# Altium schematic symbol library header_260_tp1_sct.SchLib: 1 symbol
Pins are listed as number, name and electrical type; pins without a type are passive.

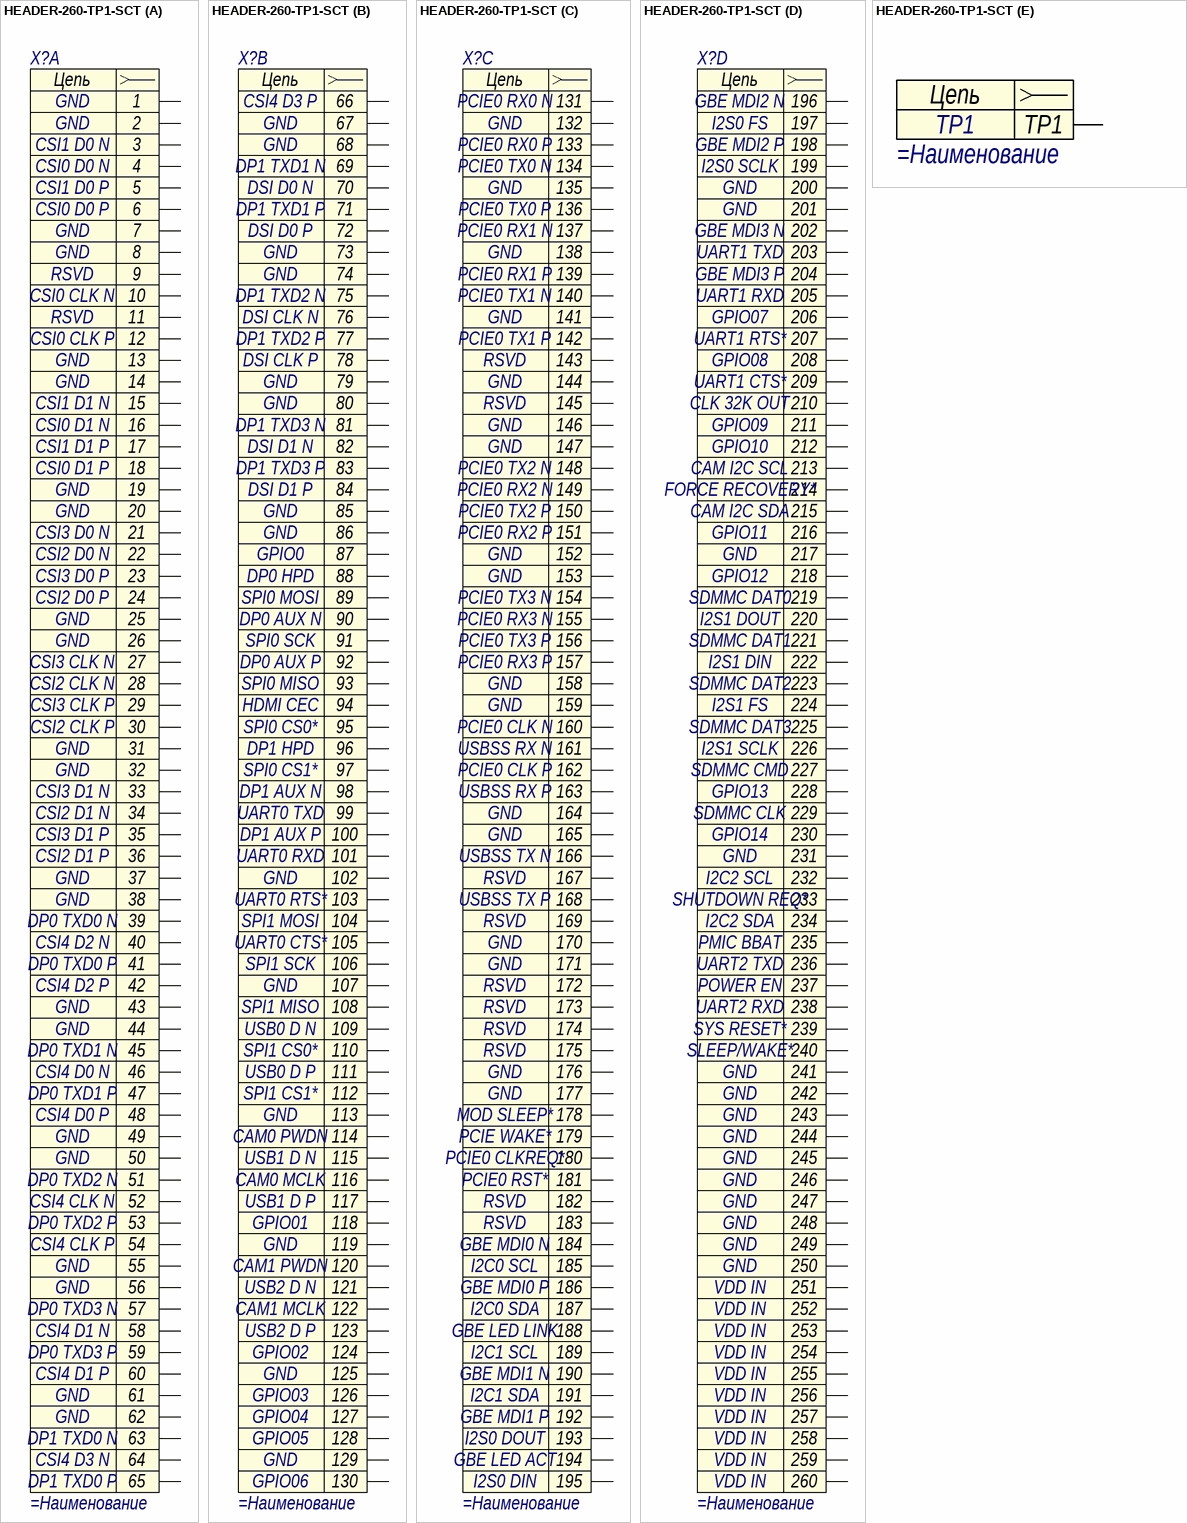
[diagram p0: symbol HEADER-260-TP1-SCT]

## HEADER-260-TP1-SCT
designator X?
=Описание; Contact_001: GND; Contact_003: CSI1 D0 N; Contact_004: CSI0 D0 N; Contact_005: CSI1 D0 P; Contact_006: CSI0 D0 P; Contact_010: CSI0 CLK N; Contact_011: RSVD; Contact_012: CSI0 CLK P; Contact_015: CSI1 D1 N; Contact_016: CSI0 D1 N; Contact_017: CSI1 D1 P; Contact_030: CSI2 CLK P; Contact_036: CSI2 D1 P; Contact_039: DP0 TXD0 N; Contact_040: CSI4 D2 N; Contact_018: CSI0 D1 P; Contact_021: CSI3 D0 N; Contact_022: CSI2 D0 N; Contact_023: CSI3 D0 P; Contact_024: CSI2 D0 P; Contact_027: CSI3 CLK N; Contact_028: CSI2 CLK N; Contact_029: CSI3 CLK P; Contact_033: CSI3 D1 N; Contact_034: CSI2 D1 N; Contact_035: CSI3 D1 P; Contact_041: DP0 TXD0 P; Contact_052: CSI4 CLK N; Contact_063: DP1 TXD0 N; Contact_069: DP1 TXD1 N; Contact_070: DSI D0 N; Contact_071: DP1 TXD1 P; Contact_072: DSI D0 P; Contact_042: CSI4 D2 P; Contact_045: DP0 TXD1 N; Contact_046: CSI4 D0 N; Contact_047: DP0 TXD1 P; Contact_048: CSI4 D0 P; Contact_051: DP0 TXD2 N; Contact_053: DP0 TXD2 P; Contact_054: CSI4 CLK P; Contact_057: DP0 TXD3 N; Contact_058: CSI4 D1 N; Contact_059: DP0 TXD3 P; Contact_060: CSI4 D1 P; Contact_064: CSI4 D3 N; Contact_065: DP1 TXD0 P; Contact_066: CSI4 D3 P; Contact_075: DP1 TXD2 N; Contact_076: DSI CLK N; Contact_077: DP1 TXD2 P; Contact_078: DSI CLK P; Contact_081: DP1 TXD3 N; Contact_082: DSI D1 N; Contact_083: DP1 TXD3 P; Contact_084: DSI D1 P; Contact_087: GPIO0; Contact_088: DP0 HPD; Contact_089: SPI0 MOSI; Contact_090: DP0 AUX N; Contact_091: SPI0 SCK; Contact_092: DP0 AUX P; Contact_093: SPI0 MISO; Contact_094: HDMI CEC; Contact_095: SPI0 CS0*; Contact_096: DP1 HPD; Contact_097: SPI0 CS1*; Contact_098: DP1 AUX N; Contact_099: UART0 TXD; Contact_100: DP1 AUX P; Contact_101: UART0 RXD; Contact_103: UART0 RTS*; Contact_104: SPI1 MOSI; Contact_105: UART0 CTS*; Contact_106: SPI1 SCK; Contact_108: SPI1 MISO; Contact_109: USB0 D N; Contact_110: SPI1 CS0*; Contact_111: USB0 D P; Contact_112: SPI1 CS1*; Contact_114: CAM0 PWDN; Contact_115: USB1 D N; Contact_116: CAM0 MCLK; Contact_117: USB1 D P; Contact_118: GPIO01; Contact_120: CAM1 PWDN; Contact_121: USB2 D N; Contact_122: CAM1 MCLK; Contact_123: USB2 D P; Contact_124: GPIO02; Contact_126: GPIO03; Contact_127: GPIO04; Contact_128: GPIO05; Contact_130: GPIO06; Contact_131: PCIE0 RX0 N; Contact_133: PCIE0 RX0 P; Contact_134: PCIE0 TX0 N; Contact_136: PCIE0 TX0 P; Contact_137: PCIE0 RX1 N; Contact_139: PCIE0 RX1 P; Contact_140: PCIE0 TX1 N; Contact_142: PCIE0 TX1 P; Contact_148: PCIE0 TX2 N; Contact_149: PCIE0 RX2 N; Contact_150: PCIE0 TX2 P; Contact_151: PCIE0 RX2 P; Contact_154: PCIE0 TX3 N; Contact_155: PCIE0 RX3 N; Contact_156: PCIE0 TX3 P; Contact_157: PCIE0 RX3 P; Contact_160: PCIE0 CLK N; Contact_161: USBSS RX N; Contact_162: PCIE0 CLK P; Contact_163: USBSS RX P; Contact_166: USBSS TX N; Contact_168: USBSS TX P; Contact_178: MOD SLEEP*; Contact_179: PCIE WAKE*; Contact_180: PCIE0 CLKREQ*; Contact_181: PCIE0 RST*; Contact_184: GBE MDI0 N; Contact_185: I2C0 SCL; Contact_186: GBE MDI0 P; Contact_187: I2C0 SDA; Contact_188: GBE LED LINK; Contact_189: I2C1 SCL; Contact_190: GBE MDI1 N; Contact_191: I2C1 SDA; Contact_192: GBE MDI1 P; Contact_193: I2S0 DOUT; Contact_194: GBE LED ACT; Contact_195: I2S0 DIN; Contact_196: GBE MDI2 N; Contact_197: I2S0 FS; Contact_198: GBE MDI2 P; Contact_199: I2S0 SCLK; Contact_202: GBE MDI3 N; Contact_203: UART1 TXD; Contact_204: GBE MDI3 P; Contact_205: UART1 RXD; Contact_206: GPIO07; Contact_207: UART1 RTS*; Contact_208: GPIO08; Contact_209: UART1 CTS*; Contact_210: CLK 32K OUT; Contact_211: GPIO09; Contact_212: GPIO10; Contact_213: CAM I2C SCL; Contact_214: FORCE RECOVERY*; Contact_215: CAM I2C SDA; Contact_216: GPIO11; Contact_218: GPIO12; Contact_219: SDMMC DAT0; Contact_220: I2S1 DOUT; Contact_221: SDMMC DAT1; Contact_222: I2S1 DIN; Contact_223: SDMMC DAT2; Contact_224: I2S1 FS; Contact_225: SDMMC DAT3; Contact_226: I2S1 SCLK; Contact_227: SDMMC CMD; Contact_228: GPIO13; Contact_229: SDMMC CLK; Contact_230: GPIO14; Contact_232: I2C2 SCL; Contact_233: SHUTDOWN REQ*; Contact_234: I2C2 SDA; Contact_235: PMIC BBAT; Contact_236: UART2 TXD; Contact_237: POWER EN; Contact_238: UART2 RXD; Contact_239: SYS RESET*; Contact_240: SLEEP/WAKE*; Contact_251: VDD IN; Contact_002: GND; Contact_007: GND; Contact_008: GND; Contact_013: GND; Contact_014: GND; Contact_009: RSVD; Contact_019: GND; Contact_037: GND; Contact_038: GND; Contact_020: GND; Contact_025: GND; Contact_026: GND; Contact_031: GND; Contact_032: GND; Contact_067: GND; Contact_068: GND; Contact_043: GND; Contact_044: GND; Contact_049: GND; Contact_050: GND; Contact_055: GND; Contact_056: GND; Contact_061: GND; Contact_062: GND; Contact_073: GND; Contact_074: GND; Contact_079: GND; Contact_080: GND; Contact_085: GND; Contact_086: GND; Contact_102: GND; Contact_107: GND; Contact_113: GND; Contact_119: GND; Contact_125: GND; Contact_129: GND; Contact_132: GND; Contact_135: GND; Contact_138: GND; Contact_141: GND; Contact_143: RSVD; Contact_144: GND; Contact_145: RSVD; Contact_146: GND; Contact_147: GND; Contact_152: GND; Contact_153: GND; Contact_158: GND; Contact_159: GND; Contact_164: GND; Contact_165: GND; Contact_167: RSVD; Contact_169: RSVD; Contact_170: GND; Contact_171: GND; Contact_172: RSVD; Contact_173: RSVD; Contact_174: RSVD; Contact_175: RSVD; Contact_176: GND; Contact_177: GND; Contact_182: RSVD; Contact_183: RSVD; Contact_200: GND; Contact_201: GND; Contact_217: GND; Contact_231: GND; Contact_241: GND; Contact_242: GND; Contact_243: GND; Contact_244: GND; Contact_245: GND; Contact_246: GND; Contact_247: GND; Contact_248: GND; Contact_249: GND; Contact_250: GND; Contact_252: VDD IN; Contact_253: VDD IN; Contact_254: VDD IN; Contact_255: VDD IN; Contact_256: VDD IN; Contact_257: VDD IN; Contact_258: VDD IN; Contact_259: VDD IN; Contact_260: VDD IN; TP1: TP1
part A pins: 1 GND, 2 GND, 3 CSI1 D0 N, 4 CSI0 D0 N, 5 CSI1 D0 P, 6 CSI0 D0 P, 7 GND, 8 GND, 9 RSVD, 10 CSI0 CLK N, 11 RSVD, 12 CSI0 CLK P, 13 GND, 14 GND, 15 CSI1 D1 N, 16 CSI0 D1 N, 17 CSI1 D1 P, 18 CSI0 D1 P, 19 GND, 20 GND, 21 CSI3 D0 N, 22 CSI2 D0 N, 23 CSI3 D0 P, 24 CSI2 D0 P, 25 GND, 26 GND, 27 CSI3 CLK N, 28 CSI2 CLK N, 29 CSI3 CLK P, 30 CSI2 CLK P, 31 GND, 32 GND, 33 CSI3 D1 N, 34 CSI2 D1 N, 35 CSI3 D1 P, 36 CSI2 D1 P, 37 GND, 38 GND, 39 DP0 TXD0 N, 40 CSI4 D2 N, 41 DP0 TXD0 P, 42 CSI4 D2 P, 43 GND, 44 GND, 45 DP0 TXD1 N, 46 CSI4 D0 N, 47 DP0 TXD1 P, 48 CSI4 D0 P, 49 GND, 50 GND, 51 DP0 TXD2 N, 52 CSI4 CLK N, 53 DP0 TXD2 P, 54 CSI4 CLK P, 55 GND, 56 GND, 57 DP0 TXD3 N, 58 CSI4 D1 N, 59 DP0 TXD3 P, 60 CSI4 D1 P, 61 GND, 62 GND, 63 DP1 TXD0 N, 64 CSI4 D3 N, 65 DP1 TXD0 P
part B pins: 66 CSI4 D3 P, 67 GND, 68 GND, 69 DP1 TXD1 N, 70 DSI D0 N, 71 DP1 TXD1 P, 72 DSI D0 P, 73 GND, 74 GND, 75 DP1 TXD2 N, 76 DSI CLK N, 77 DP1 TXD2 P, 78 DSI CLK P, 79 GND, 80 GND, 81 DP1 TXD3 N, 82 DSI D1 N, 83 DP1 TXD3 P, 84 DSI D1 P, 85 GND, 86 GND, 87 GPIO0, 88 DP0 HPD, 89 SPI0 MOSI, 90 DP0 AUX N, 91 SPI0 SCK, 92 DP0 AUX P, 93 SPI0 MISO, 94 HDMI CEC, 95 SPI0 CS0*, 96 DP1 HPD, 97 SPI0 CS1*, 98 DP1 AUX N, 99 UART0 TXD, 100 DP1 AUX P, 101 UART0 RXD, 102 GND, 103 UART0 RTS*, 104 SPI1 MOSI, 105 UART0 CTS*, 106 SPI1 SCK, 107 GND, 108 SPI1 MISO, 109 USB0 D N, 110 SPI1 CS0*, 111 USB0 D P, 112 SPI1 CS1*, 113 GND, 114 CAM0 PWDN, 115 USB1 D N, 116 CAM0 MCLK, 117 USB1 D P, 118 GPIO01, 119 GND, 120 CAM1 PWDN, 121 USB2 D N, 122 CAM1 MCLK, 123 USB2 D P, 124 GPIO02, 125 GND, 126 GPIO03, 127 GPIO04, 128 GPIO05, 129 GND, 130 GPIO06
part C pins: 131 PCIE0 RX0 N, 132 GND, 133 PCIE0 RX0 P, 134 PCIE0 TX0 N, 135 GND, 136 PCIE0 TX0 P, 137 PCIE0 RX1 N, 138 GND, 139 PCIE0 RX1 P, 140 PCIE0 TX1 N, 141 GND, 142 PCIE0 TX1 P, 143 RSVD, 144 GND, 145 RSVD, 146 GND, 147 GND, 148 PCIE0 TX2 N, 149 PCIE0 RX2 N, 150 PCIE0 TX2 P, 151 PCIE0 RX2 P, 152 GND, 153 GND, 154 PCIE0 TX3 N, 155 PCIE0 RX3 N, 156 PCIE0 TX3 P, 157 PCIE0 RX3 P, 158 GND, 159 GND, 160 PCIE0 CLK N, 161 USBSS RX N, 162 PCIE0 CLK P, 163 USBSS RX P, 164 GND, 165 GND, 166 USBSS TX N, 167 RSVD, 168 USBSS TX P, 169 RSVD, 170 GND, 171 GND, 172 RSVD, 173 RSVD, 174 RSVD, 175 RSVD, 176 GND, 177 GND, 178 MOD SLEEP*, 179 PCIE WAKE*, 180 PCIE0 CLKREQ*, 181 PCIE0 RST*, 182 RSVD, 183 RSVD, 184 GBE MDI0 N, 185 I2C0 SCL, 186 GBE MDI0 P, 187 I2C0 SDA, 188 GBE LED LINK, 189 I2C1 SCL, 190 GBE MDI1 N, 191 I2C1 SDA, 192 GBE MDI1 P, 193 I2S0 DOUT, 194 GBE LED ACT, 195 I2S0 DIN
part D pins: 196 GBE MDI2 N, 197 I2S0 FS, 198 GBE MDI2 P, 199 I2S0 SCLK, 200 GND, 201 GND, 202 GBE MDI3 N, 203 UART1 TXD, 204 GBE MDI3 P, 205 UART1 RXD, 206 GPIO07, 207 UART1 RTS*, 208 GPIO08, 209 UART1 CTS*, 210 CLK 32K OUT, 211 GPIO09, 212 GPIO10, 213 CAM I2C SCL, 214 FORCE RECOVERY*, 215 CAM I2C SDA, 216 GPIO11, 217 GND, 218 GPIO12, 219 SDMMC DAT0, 220 I2S1 DOUT, 221 SDMMC DAT1, 222 I2S1 DIN, 223 SDMMC DAT2, 224 I2S1 FS, 225 SDMMC DAT3, 226 I2S1 SCLK, 227 SDMMC CMD, 228 GPIO13, 229 SDMMC CLK, 230 GPIO14, 231 GND, 232 I2C2 SCL, 233 SHUTDOWN REQ*, 234 I2C2 SDA, 235 PMIC BBAT, 236 UART2 TXD, 237 POWER EN, 238 UART2 RXD, 239 SYS RESET*, 240 SLEEP/WAKE*, 241 GND, 242 GND, 243 GND, 244 GND, 245 GND, 246 GND, 247 GND, 248 GND, 249 GND, 250 GND, 251 VDD IN, 252 VDD IN, 253 VDD IN, 254 VDD IN, 255 VDD IN, 256 VDD IN, 257 VDD IN, 258 VDD IN, 259 VDD IN, 260 VDD IN
part E pins: TP1
part A text: Цепь
part B text: Цепь
part C text: Цепь
part D text: Цепь
part E text: Цепь